# EAGLE library part RT6154AGQW (library RT6154AGQW)
RICHTEK - RT6154AGQW - DC/DC CONV, BUCK-BOOST, 2.4MHZ, WDFN-14 Source: Datasheet <https://www.richtek.com/assets/product_file/RT6154A=RT6154B/DS6154AB-01.pdf>
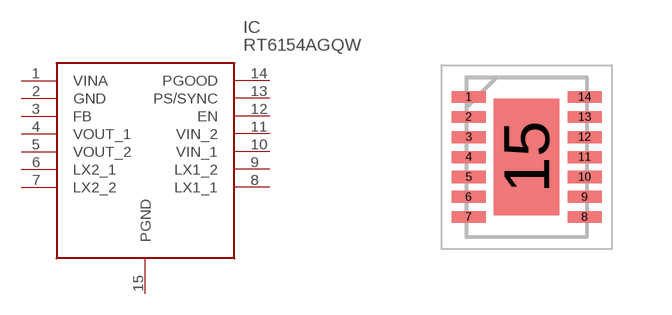
[diagram p0: symbol with the pads of SON50P300X400X80-15N; footprint SON50P300X400X80-15N]

Designator prefix IC

## RT6154AGQW (Description: RICHTEK - RT6154AGQW - DC/DC CONV, BUCK-BOOST, 2.4MHZ, WDFN-14; Height: 0.8mm; Manufacturer_Name: RICHTEK; Manufacturer_Part_Number: RT6154AGQW; Mouser_Part_Number: 835-RT6154AGQW; Mouser_Price-Stock: https://www.mouser.co.uk/ProductDetail/Richtek/RT6154AGQW?qs=amGC7iS6iy9E3yYxjjg2sA%3D%3D)  [SON50P300X400X80-15N]
1  VINA
2  GND
3  FB
4  VOUT_1
5  VOUT_2
6  LX2_1
7  LX2_2
8  LX1_1
9  LX1_2
10  VIN_1
11  VIN_2
12  EN
13  PS/SYNC
14  PGOOD
15  PGND

## Footprint SON50P300X400X80-15N (pad centres in mm)
UCZ1H102MNQ1MS
smd 0.85 x 0.3: 1 -1.45,1.5; 2 -1.45,1; 3 -1.45,0.5; 4 -1.45,0; 5 -1.45,-0.5; 6 -1.45,-1; 7 -1.45,-1.5; 8 1.45,-1.5; 9 1.45,-1; 10 1.45,-0.5; 11 1.45,0; 12 1.45,0.5; 13 1.45,1; 14 1.45,1.5
smd 1.63 x 2.9: 15 0,0